# Altium footprint library MSD_DB01M_12P.PcbLib: 1 footprints
Each footprint in its own frame and in the unit in brackets; x right, y up, seen from the top. Pads: shape width x height; smd on the part's side, far side on the other; paste and mask are expansions set on the pad; w line width, h text height; cw(c..) or ccw(c..) is an arc to the next point about the centre after c.
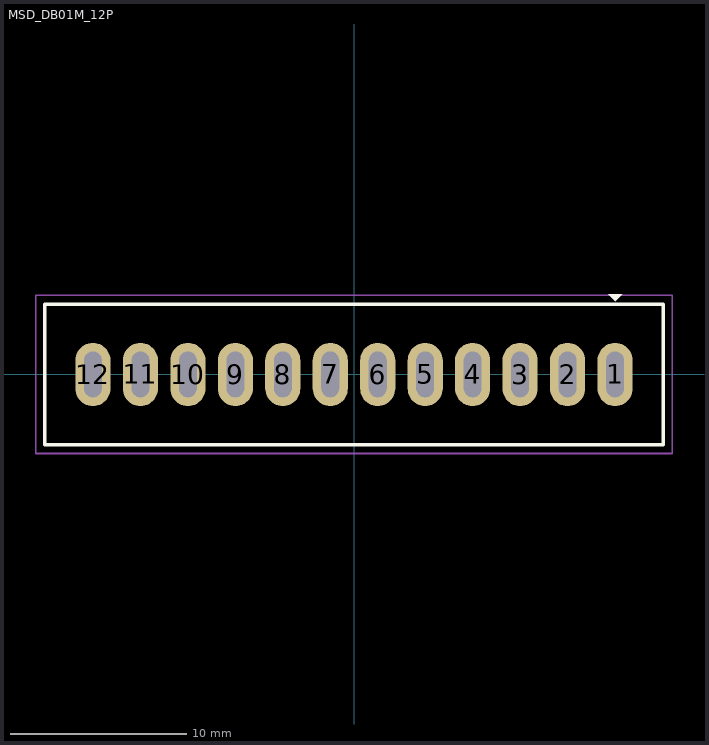
[diagram p0: the footprint, top view; thin cyan lines are the x and y axes]

## MSD_DB01M_12P [mm]
pads (12):
  rrect100% 2x3.6 hole 1 slot 2.6 at 90 deg mask-0.45: 1(14.85,0) 2(12.15,0) 3(9.45,0) 4(6.75,0) 5(4.05,0) 6(1.35,0) 7(-1.35,0) 8(-4.05,0) 9(-6.75,0) 10(-9.45,0) 11(-12.15,0) 12(-14.85,0)
Top Overlay:
  region: 14.45,4.55 15.25,4.55 14.85,4.15
  lines w0.2: -17.6,-4 -17.6,4 17.6,4 17.6,-4 -17.6,-4
Top Courtyard:
  lines w0.1: -18.1,-4.5 -18.1,4.5 18.1,4.5 18.1,-4.5 -17.6,-4.5 -18.1,-4.5
3D body "SPCEO0100.STEP": height 8, standoff 0, extent -17.65,-3.95 17.65,3.95